# Altium integrated library linear.IntLib: 649 symbols (part 4 of 4)
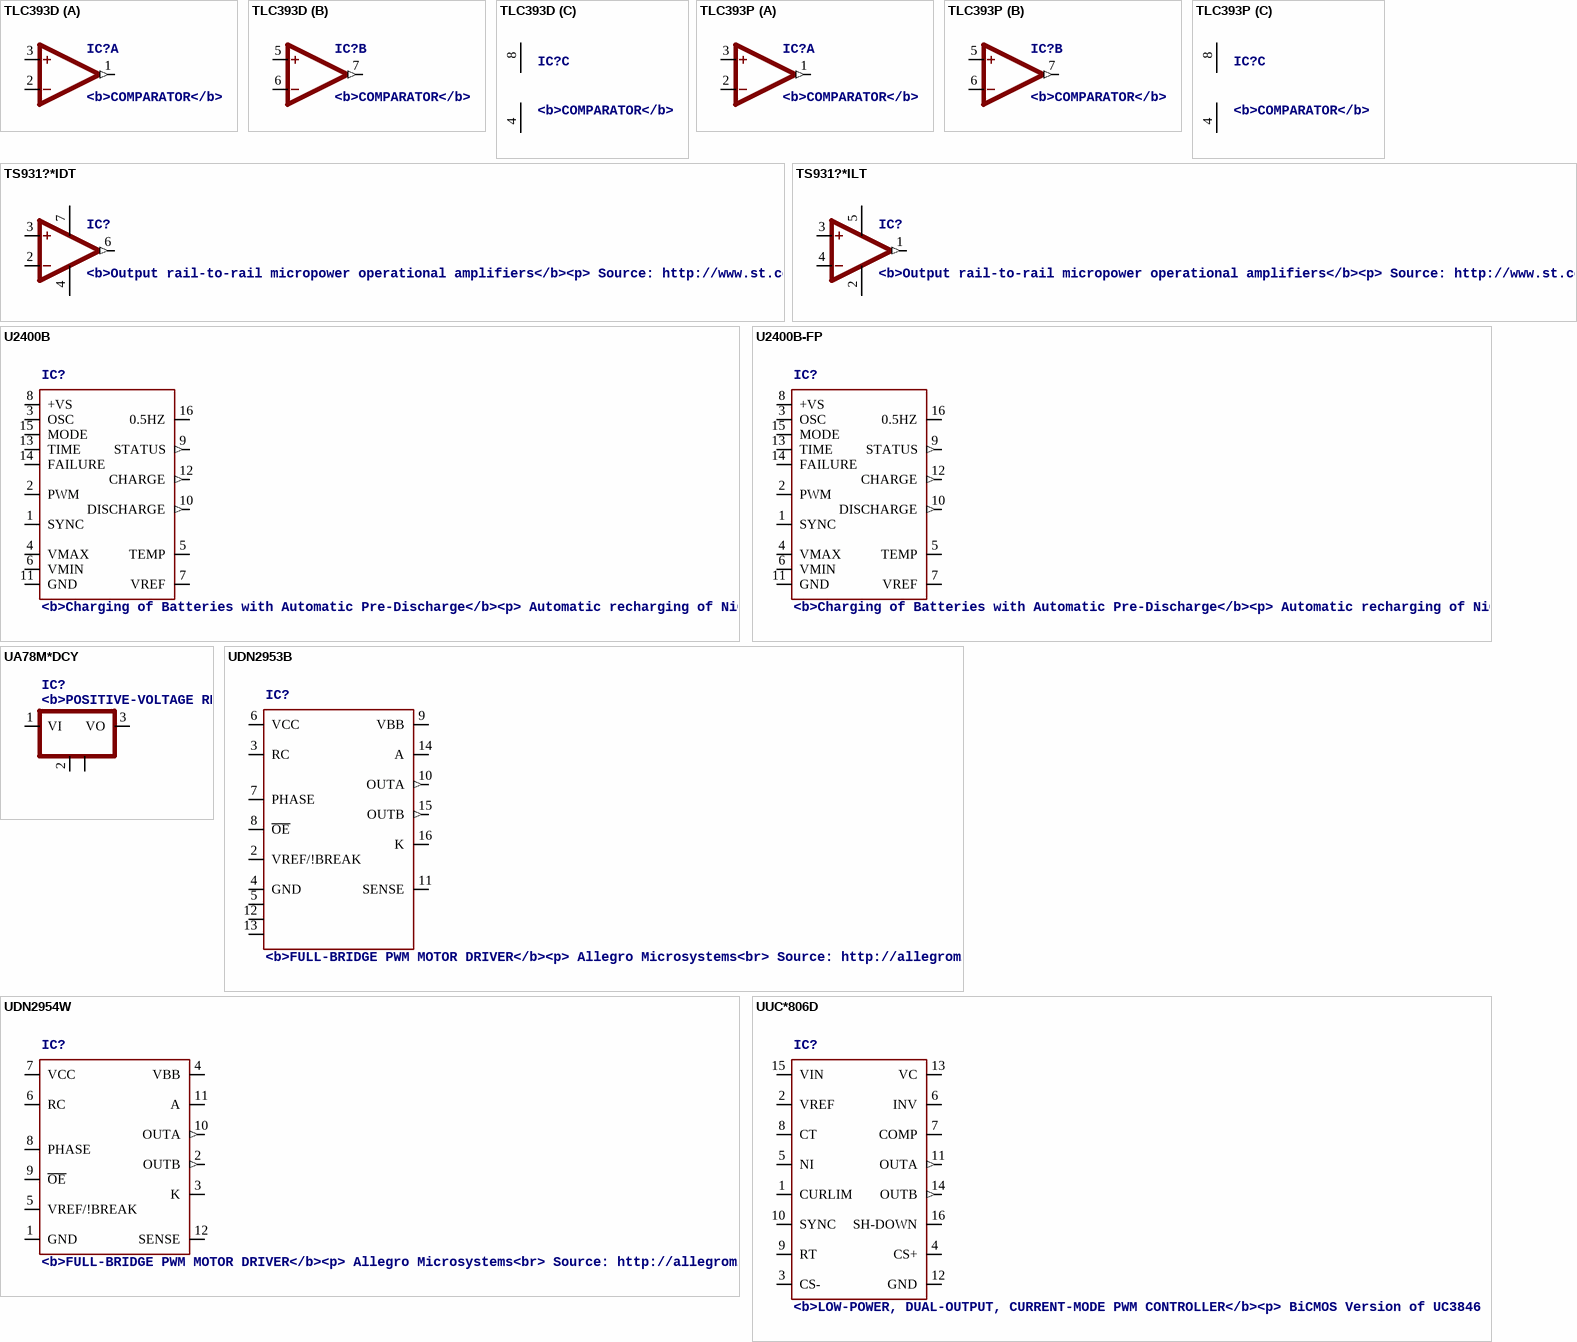
[diagram p50: symbols TLC393D to UUC*806D]

## U2400B-FP
designator IC?, comment <b>Charging of Batteries with Automatic Pre-Discharge</b><p> / Automatic recharging of NiCd / NiMH batteries.<br> / Source: http://www.elektronikpool.de/Sheets/U2400B.PDF
footprint SO16L
pins: 1 SYNC, 2 PWM, 3 OSC, 4 VMAX, 5 TEMP, 6 VMIN, 7 VREF, 8 +VS (power), 9 STATUS (out), 10 DISCHARGE (out), 11 GND (power), 12 CHARGE (out), 13 TIME, 14 FAILURE, 15 MODE, 16 0.5HZ

## UA78M*DCY
designator IC?, comment <b>POSITIVE-VOLTAGE REGULATORS</b><p> / Source: http://focus.ti.com/lit/ds/symlink/ua78m33.pdf
footprint SOT223
pins: 1 VI, 2 GND, 3 VO, 4 GND

## UDN2953B
designator IC?, comment <b>FULL-BRIDGE PWM MOTOR DRIVER</b><p> / Allegro Microsystems<br> / Source: http://allegromicro.com/datafile/archive/2953.pdf
footprint DIL16
pins: 2 VREF/!BREAK, 3 RC, 4 GND (power), 5 GND (power), 6 VCC (power), 7 PHASE, 8 ~{OE}, 9 VBB (power), 10 OUTA (out), 11 SENSE, 12 GND (power), 13 GND (power), 14 A, 15 OUTB (out), 16 K

## UDN2954W
designator IC?, comment <b>FULL-BRIDGE PWM MOTOR DRIVER</b><p> / Allegro Microsystems<br> / Source: http://allegromicro.com/datafile/archive/2953.pdf
footprint UDN2954W
pins: 1 GND (power), 2 OUTB (out), 3 K, 4 VBB (power), 5 VREF/!BREAK, 6 RC, 7 VCC (power), 8 PHASE, 9 ~{OE}, 10 OUTA (out), 11 A, 12 SENSE

## UUC*806D
designator IC?, comment <b>LOW-POWER, DUAL-OUTPUT, CURRENT-MODE PWM CONTROLLER</b><p> / BiCMOS Version of UC3846 Family<br> / Source: http://focus.ti.com/lit/ds/symlink/ucc3806.pdf
footprint SO16
pins: 1 CURLIM, 2 VREF, 3 CS-, 4 CS+, 5 NI, 6 INV, 7 COMP, 8 CT, 9 RT, 10 SYNC, 11 OUTA (out), 12 GND (power), 13 VC (power), 14 OUTB (out), 15 VIN, 16 SH-DOWN

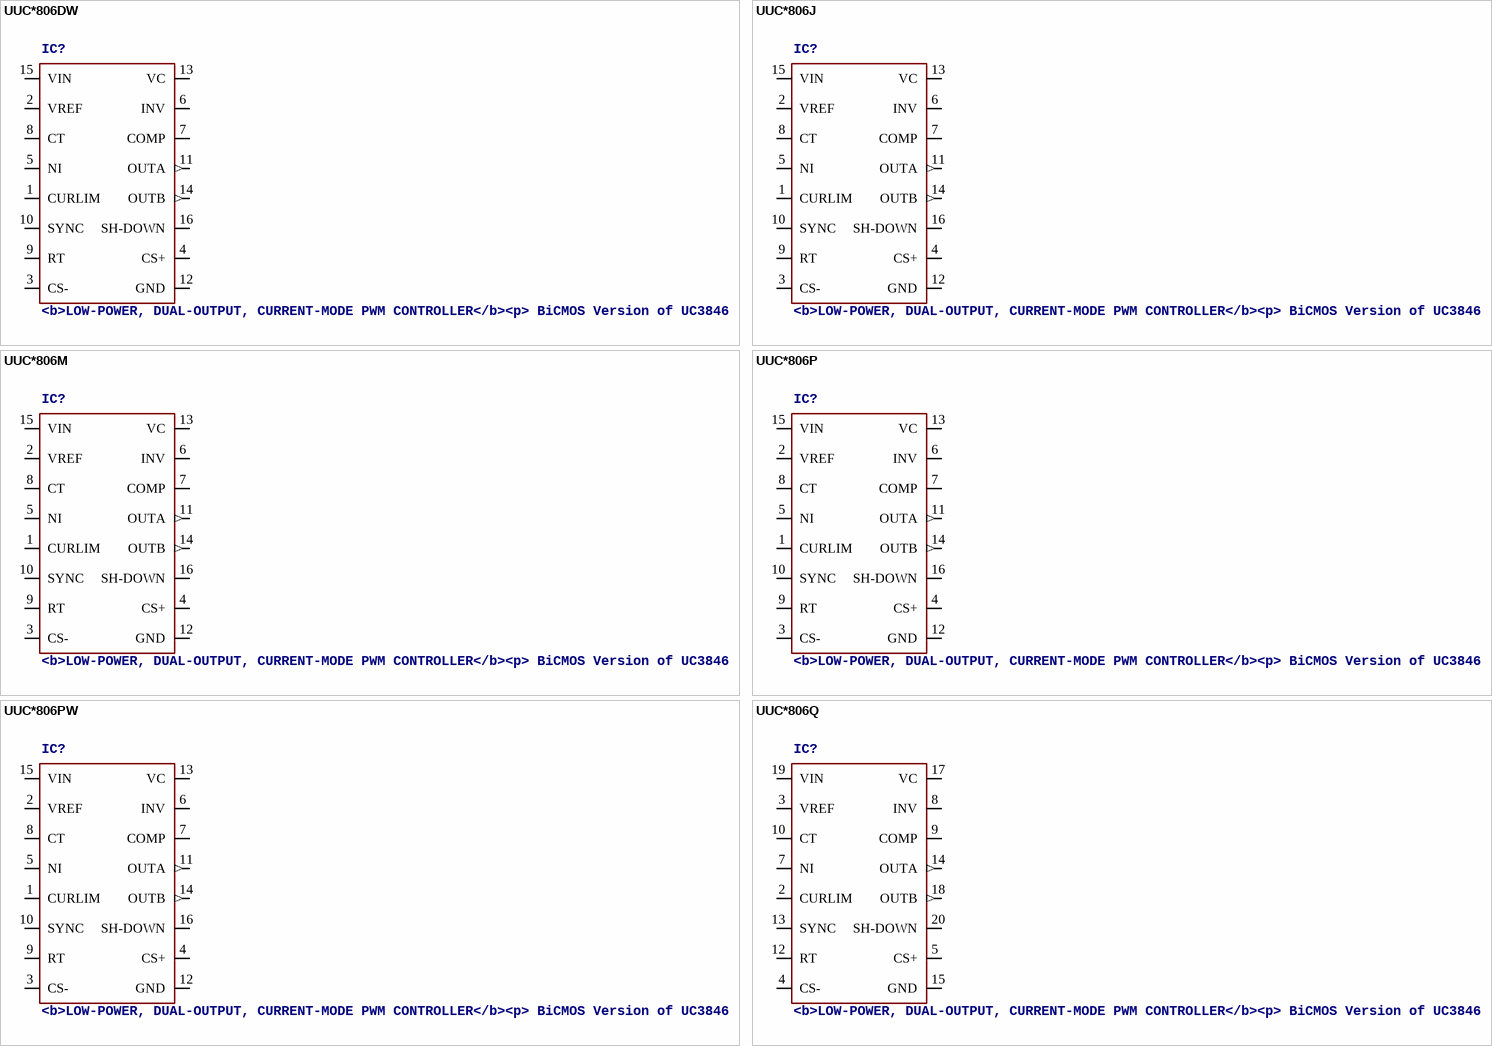
[diagram p47: symbols UUC*806DW to UUC*806Q]

## UUC*806DW
designator IC?, comment <b>LOW-POWER, DUAL-OUTPUT, CURRENT-MODE PWM CONTROLLER</b><p> / BiCMOS Version of UC3846 Family<br> / Source: http://focus.ti.com/lit/ds/symlink/ucc3806.pdf
footprint SO16DW
pins: 1 CURLIM, 2 VREF, 3 CS-, 4 CS+, 5 NI, 6 INV, 7 COMP, 8 CT, 9 RT, 10 SYNC, 11 OUTA (out), 12 GND (power), 13 VC (power), 14 OUTB (out), 15 VIN, 16 SH-DOWN

## UUC*806J
designator IC?, comment <b>LOW-POWER, DUAL-OUTPUT, CURRENT-MODE PWM CONTROLLER</b><p> / BiCMOS Version of UC3846 Family<br> / Source: http://focus.ti.com/lit/ds/symlink/ucc3806.pdf
footprint DIL16
pins: 1 CURLIM, 2 VREF, 3 CS-, 4 CS+, 5 NI, 6 INV, 7 COMP, 8 CT, 9 RT, 10 SYNC, 11 OUTA (out), 12 GND (power), 13 VC (power), 14 OUTB (out), 15 VIN, 16 SH-DOWN

## UUC*806M
designator IC?, comment <b>LOW-POWER, DUAL-OUTPUT, CURRENT-MODE PWM CONTROLLER</b><p> / BiCMOS Version of UC3846 Family<br> / Source: http://focus.ti.com/lit/ds/symlink/ucc3806.pdf
footprint SSOP16
pins: 1 CURLIM, 2 VREF, 3 CS-, 4 CS+, 5 NI, 6 INV, 7 COMP, 8 CT, 9 RT, 10 SYNC, 11 OUTA (out), 12 GND (power), 13 VC (power), 14 OUTB (out), 15 VIN, 16 SH-DOWN

## UUC*806P
designator IC?, comment <b>LOW-POWER, DUAL-OUTPUT, CURRENT-MODE PWM CONTROLLER</b><p> / BiCMOS Version of UC3846 Family<br> / Source: http://focus.ti.com/lit/ds/symlink/ucc3806.pdf
footprint DIL16
pins: 1 CURLIM, 2 VREF, 3 CS-, 4 CS+, 5 NI, 6 INV, 7 COMP, 8 CT, 9 RT, 10 SYNC, 11 OUTA (out), 12 GND (power), 13 VC (power), 14 OUTB (out), 15 VIN, 16 SH-DOWN

## UUC*806PW
designator IC?, comment <b>LOW-POWER, DUAL-OUTPUT, CURRENT-MODE PWM CONTROLLER</b><p> / BiCMOS Version of UC3846 Family<br> / Source: http://focus.ti.com/lit/ds/symlink/ucc3806.pdf
footprint TSSOP16
pins: 1 CURLIM, 2 VREF, 3 CS-, 4 CS+, 5 NI, 6 INV, 7 COMP, 8 CT, 9 RT, 10 SYNC, 11 OUTA (out), 12 GND (power), 13 VC (power), 14 OUTB (out), 15 VIN, 16 SH-DOWN

## UUC*806Q
designator IC?, comment <b>LOW-POWER, DUAL-OUTPUT, CURRENT-MODE PWM CONTROLLER</b><p> / BiCMOS Version of UC3846 Family<br> / Source: http://focus.ti.com/lit/ds/symlink/ucc3806.pdf
footprint PLCC20S
pins: 2 CURLIM, 3 VREF, 4 CS-, 5 CS+, 7 NI, 8 INV, 9 COMP, 10 CT, 12 RT, 13 SYNC, 14 OUTA (out), 15 GND (power), 17 VC (power), 18 OUTB (out), 19 VIN, 20 SH-DOWN